# EAGLE library part MA14-2 (library we-con)
Pin Header
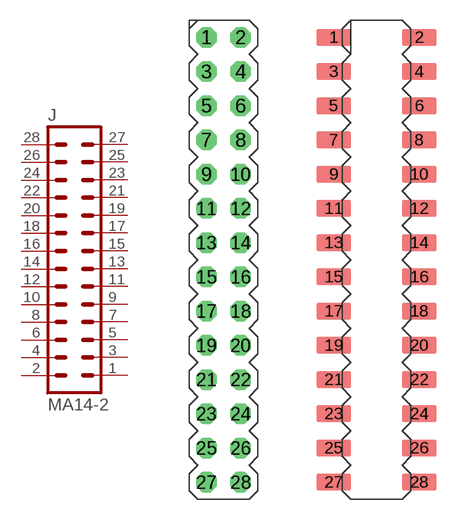
[diagram p38: symbol with the pads of MA14-2; footprints MA14-2, MA14-2_SMD]

Designator prefix J

## MA14-2  [MA14-2]
1  1  pas
2  2  pas
3  3  pas
4  4  pas
5  5  pas
6  6  pas
7  7  pas
8  8  pas
9  9  pas
10  10  pas
11  11  pas
12  12  pas
13  13  pas
14  14  pas
15  15  pas
16  16  pas
17  17  pas
18  18  pas
19  19  pas
20  20  pas
21  21  pas
22  22  pas
23  23  pas
24  24  pas
25  25  pas
26  26  pas
27  27  pas
28  28  pas

## MA14-2S  [MA14-2_SMD]
Pads as for MA14-2

## Footprint MA14-2 (pad centres in mm)
drill 1 octagon: 1 -1.27,16.51; 2 1.27,16.51; 3 -1.27,13.97; 4 1.27,13.97; 5 -1.27,11.43; 6 1.27,11.43; 7 -1.27,8.89; 8 1.27,8.89; 9 -1.27,6.35; 10 1.27,6.35; 11 -1.27,3.81; 12 1.27,3.81; 13 -1.27,1.27; 14 1.27,1.27; 15 -1.27,-1.27; 16 1.27,-1.27; 17 -1.27,-3.81; 18 1.27,-3.81; 19 -1.27,-6.35; 20 1.27,-6.35; 21 -1.27,-8.89; 22 1.27,-8.89; 23 -1.27,-11.43; 24 1.27,-11.43; 25 -1.27,-13.97; 26 1.27,-13.97; 27 -1.27,-16.51; 28 1.27,-16.51

## Footprint MA14-2_SMD (pad centres in mm)
smd 2.54 x 1.27: 1 -3.175,16.51; 2 3.175,16.51; 3 -3.175,13.97; 4 3.175,13.97; 5 -3.175,11.43; 6 3.175,11.43; 7 -3.175,8.89; 8 3.175,8.89; 9 -3.175,6.35; 10 3.175,6.35; 11 -3.175,3.81; 12 3.175,3.81; 13 -3.175,1.27; 14 3.175,1.27; 15 -3.175,-1.27; 16 3.175,-1.27; 17 -3.175,-3.81; 18 3.175,-3.81; 19 -3.175,-6.35; 20 3.175,-6.35; 21 -3.175,-8.89; 22 3.175,-8.89; 23 -3.175,-11.43; 24 3.175,-11.43; 25 -3.175,-13.97; 26 3.175,-13.97; 27 -3.175,-16.51; 28 3.175,-16.51